# Altium schematic symbol library Aff.SchLib: 1 symbol
Pins are listed as number, name and electrical type; pins without a type are passive.

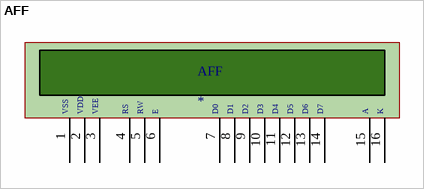
[diagram p0: symbol AFF]

## AFF
designator AFF
pins: 1, 2, 3, 4, 5, 6, 7, 8, 9, 10, 11, 12, 13, 14, 15, 16
text: VSS; VDD; VEE; RS; RW; E; D0; D1; D2; D3; D4; D5; D6; D7; A; K